# Altium footprint library MT_Connector.PcbLib: 46 footprints (part 3 of 3)
Each footprint in its own frame and in the unit in brackets; x right, y up, seen from the top. Pads: shape width x height; smd on the part's side, far side on the other; paste and mask are expansions set on the pad; w line width, h text height; cw(c..) or ccw(c..) is an arc to the next point about the centre after c.
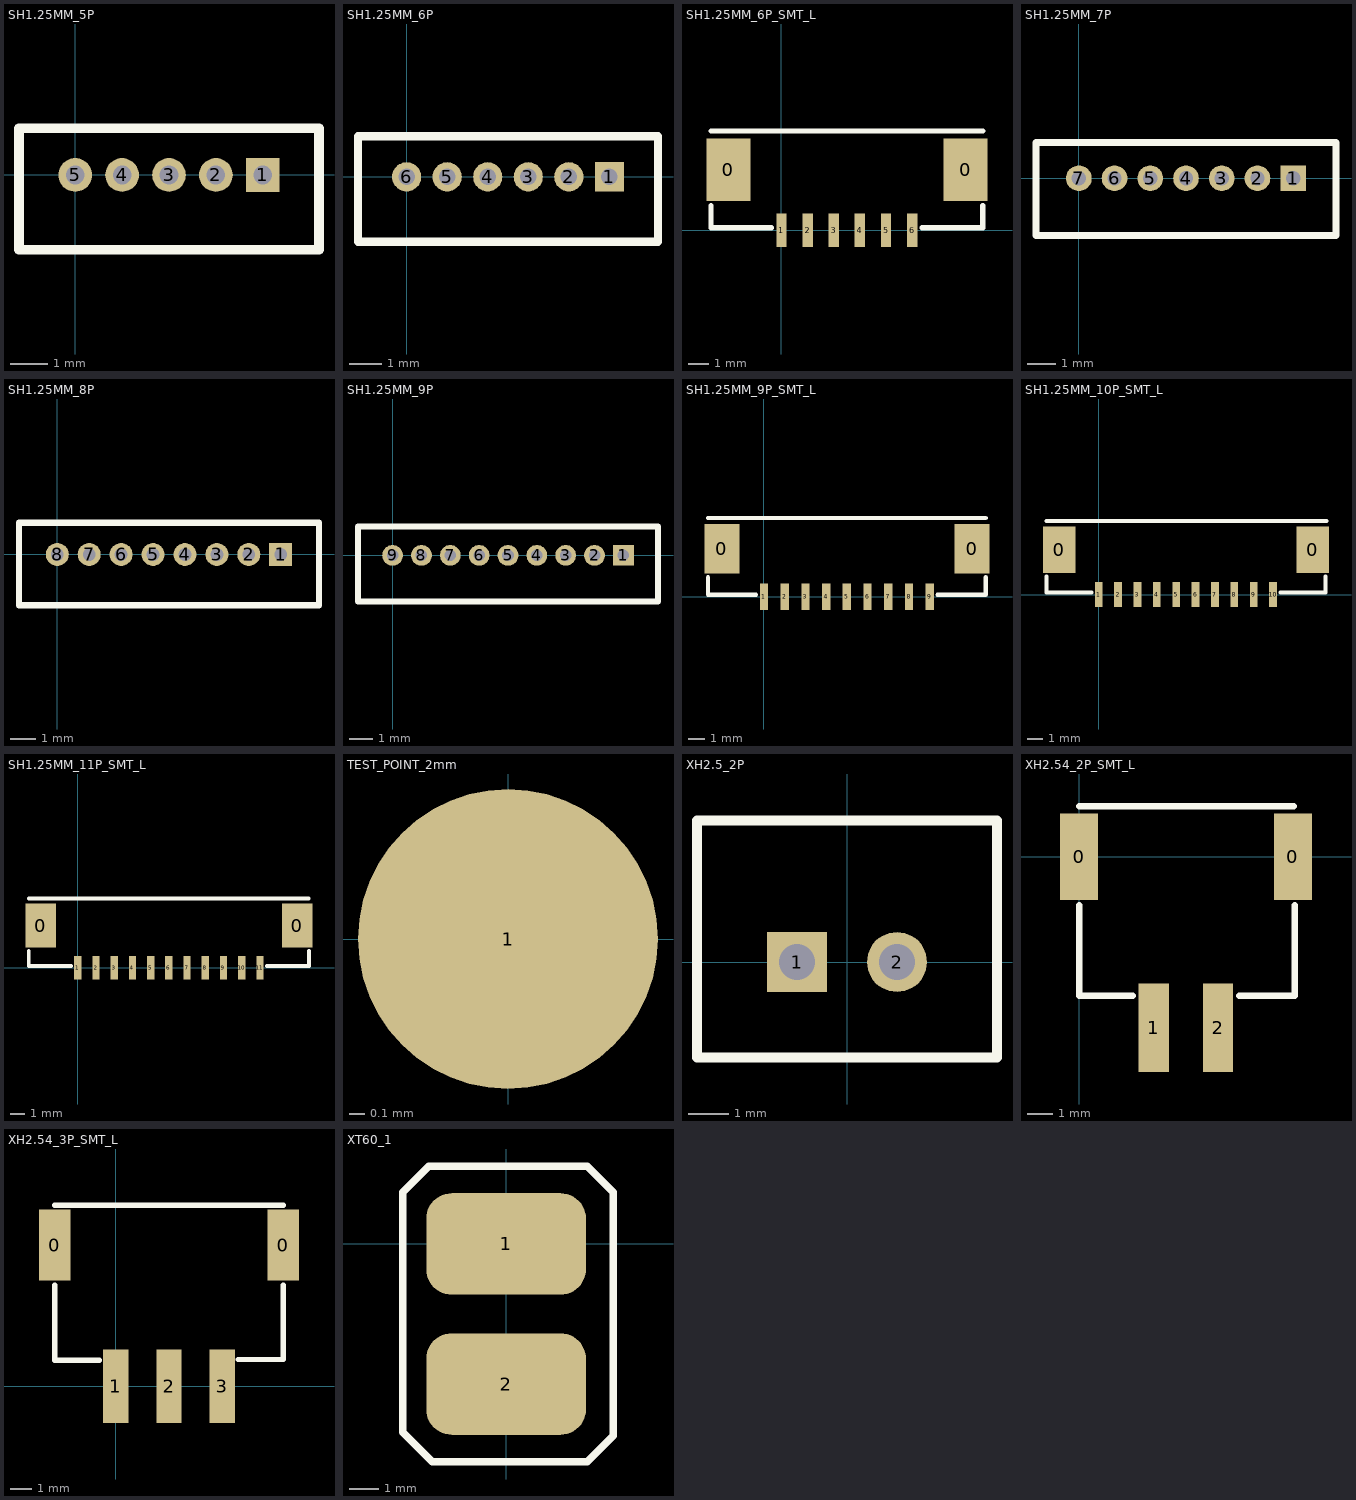
[diagram p2: the footprints below, top view; thin cyan lines are the x and y axes]

## SH1.25MM_5P [mm]
pads (5):
  rect 0.9x0.9 hole 0.5: 1(5,0)
  round 0.9 hole 0.5: 2(3.75,0) 3(2.5,0) 4(1.25,0) 5(0,0)
Top Overlay:
  lines w0.254: -1.5,-2 6.5,-2 6.5,0 6.5,1.25 -1.5,1.25 -1.5,-2
3D body "JST connector 1x5  P1.25mm thru hole wafer A2.step": height 4.7, standoff -2.2, extent -1.5,-1.95 6.5,1.25

## SH1.25MM_6P [mm]
pads (6):
  rect 0.9x0.9 hole 0.5: 1(6.25,0)
  round 0.9 hole 0.5: 2(5,0) 3(3.75,0) 4(2.5,0) 5(1.25,0) 6(0,0)
Top Overlay:
  lines w0.254: -1.5,-2 -1.5,0 -1.5,1.25 7.75,1.25 7.75,0 7.75,-2 -1.5,-2
3D body "JST connector 1x6  P1.25mm thru hole wafer A2.step": height 4.7, standoff -2.2, extent -1.5,-1.95 7.75,1.25

## SH1.25MM_6P_SMT_L [mm]
pads (8):
  rect 2.1x3 smd: 0(-2.541,2.899) 0(8.809,2.899)
  rect 0.5x1.6 smd: 1(0,0) 2(1.25,0) 3(2.5,0) 4(3.75,0) 5(5,0) 6(6.25,0)
Top Overlay:
  lines w0.254: -3.375,1.175 -3.375,0.125 -0.475,0.125 ; -3.375,4.75 9.625,4.75 ; 6.725,0.125 9.625,0.125 9.625,1.175
3D body "JST - GH - SMD (R) - 6Pin - 1.25mm.stp": height 3.53, standoff 0, extent -3.314,-0.695 9.514,4.652

## SH1.25MM_7P [mm]
pads (7):
  rect 0.9x0.9 hole 0.5: 1(7.5,0)
  round 0.9 hole 0.5: 2(6.25,0) 3(5,0) 4(3.75,0) 5(2.5,0) 6(1.25,0) 7(0,0)
Top Overlay:
  lines w0.254: -1.5,-2 -1.5,0 -1.5,1.25 0,1.25 9,1.25 9,0 9,-2 -1.5,-2
3D body "JST connector 1x7  P1.25mm thru hole wafer A2.step": height 4.7, standoff -2.2, extent -1.5,-1.95 9,1.25

## SH1.25MM_8P [mm]
pads (8):
  rect 0.9x0.9 hole 0.5: 1(8.75,0)
  round 0.9 hole 0.5: 2(7.5,0) 3(6.25,0) 4(5,0) 5(3.75,0) 6(2.5,0) 7(1.25,0) 8(0,0)
Top Overlay:
  lines w0.254: -1.5,-2 -1.5,1.25 1.25,1.25 10.25,1.25 10.25,0 10.25,-2 -1.5,-2
3D body "JST connector 1x8  P1.25mm thru hole wafer A2.step": height 4.7, standoff -2.2, extent -1.5,-1.95 10.25,1.25

## SH1.25MM_9P [mm]
pads (9):
  rect 0.9x0.9 hole 0.5: 1(10,0)
  round 0.9 hole 0.5: 2(8.75,0) 3(7.5,0) 4(6.25,0) 5(5,0) 6(3.75,0) 7(2.5,0) 8(1.25,0) 9(0,0)
Top Overlay:
  lines w0.254: -1.5,-2 11.5,-2 11.5,0 11.5,1.25 2.5,1.25 -1.5,1.25 -1.5,-2
3D body "JST connector 1x9  P1.25mm thru hole wafer A2.step": height 4.7, standoff -2.2, extent -1.5,-1.95 11.5,1.25

## SH1.25MM_9P_SMT_L [mm]
pads (11):
  rect 2.1x3 smd: 0(-2.541,2.899) 0(12.559,2.899)
  rect 0.5x1.6 smd: 1(0,0) 2(1.25,0) 3(2.5,0) 4(3.75,0) 5(5,0) 6(6.25,0) 7(7.5,0) 8(8.75,0) 9(10,0)
Top Overlay:
  lines w0.254: -3.375,1.175 -3.375,0.125 -0.475,0.125 ; -3.375,4.75 13.375,4.75 ; 10.475,0.125 13.375,0.125 13.375,1.175
3D body "JST - GH - SMD (R) - 9Pin - 1.25mm.stp": height 3.53, standoff 0, extent -3.289,-0.694 13.289,4.652

## SH1.25MM_10P_SMT_L [mm]
pads (12):
  rect 2.1x3 smd: 0(-2.541,2.899) 0(13.809,2.899)
  rect 0.5x1.6 smd: 1(0,0) 2(1.25,0) 3(2.5,0) 4(3.75,0) 5(5,0) 6(6.25,0) 7(7.5,0) 8(8.75,0) 9(10,0) 10(11.25,0)
Top Overlay:
  lines w0.254: -3.375,1.175 -3.375,0.125 -0.475,0.125 ; -3.375,4.75 14.7,4.75 ; 11.725,0.125 14.625,0.125 14.625,1.175

## SH1.25MM_11P_SMT_L [mm]
pads (13):
  rect 2.1x3 smd: 0(-2.541,2.899) 0(15.059,2.899)
  rect 0.5x1.6 smd: 1(0,0) 2(1.25,0) 3(2.5,0) 4(3.75,0) 5(5,0) 6(6.25,0) 7(7.5,0) 8(8.75,0) 9(10,0) 10(11.25,0) 11(12.5,0)
Top Overlay:
  lines w0.254: -3.375,1.175 -3.375,0.125 -0.475,0.125 ; -3.375,4.75 15.85,4.75 ; 12.975,0.125 15.875,0.125 15.875,1.175
3D body "JST - GH - SMD (R) - 11Pin - 1.25mm.stp": height 3.53, standoff 0, extent -3.289,-0.247 15.789,5.1

## TEST_POINT_2mm [mm]
pads (1):
  round 2 smd: 1(0,0)

## XH2.5_2P [mm]
pads (2):
  rect 1.5x1.5 hole 0.9: 1(-1.25,0)
  round 1.5 hole 0.9: 2(1.25,0)
Top Overlay:
  lines w0.254: -3.75,-2.39 3.75,-2.39 3.75,3.54 -3.75,3.54 -3.75,-2.39
3D body "JST - XH - Thru (V) - 2Pin - 2.54mm.stp": height 7.21, standoff -3, extent -3.607,-2.489 3.607,3.353

## XH2.54_2P_SMT_L [mm]
pads (4):
  rect 1.5x3.4 smd: 0(0,0) 0(8.45,0)
  rect 1.2x3.5 smd: 1(2.95,-6.75) 2(5.49,-6.75)
Top Overlay:
  lines w0.254: 0,-1.925 0,-5.5 2.125,-5.5 ; 0,2 8.475,2 ; 6.325,-5.5 8.525,-5.5 8.525,-1.925
3D body "JST - XH - SMD (R) - 2Pin - 2.54mm.stp": height 5.92, standoff 0, extent -0.817,-7.8 9.317,2.106

## XH2.54_3P_SMT_L [mm]
pads (5):
  rect 1.5x3.4 smd: 0(-2.921,6.731) 0(8.001,6.731)
  rect 1.2x3.5 smd: 1(0,0) 2(2.54,0) 3(5.08,0)
Top Overlay:
  lines w0.254: -2.921,4.826 -2.921,1.231 -0.796,1.231 ; -2.921,8.636 8.001,8.636 ; 5.842,1.27 8.001,1.27 8.001,4.826
3D body "XH2.54 3p.stp": height 6, standoff 0, extent -3.475,-1.6 8.475,9

## XT60_1 [mm]
pads (2):
  rrect50% 5.5x3.5 smd: 1(0,0) 2(0,-4.826)
Top Overlay:
  lines w0.254: -3.556,-6.477 -2.54,-7.493 2.794,-7.493 3.683,-6.604 3.683,1.778 2.794,2.667 -2.667,2.667 -3.556,1.778 -3.556,-6.477